# Altium footprint library 9774030592R.PcbLib: 1 footprints
Each footprint in its own frame and in the unit in brackets; x right, y up, seen from the top. Pads: shape width x height; smd on the part's side, far side on the other; paste and mask are expansions set on the pad; w line width, h text height; cw(c..) or ccw(c..) is an arc to the next point about the centre after c.
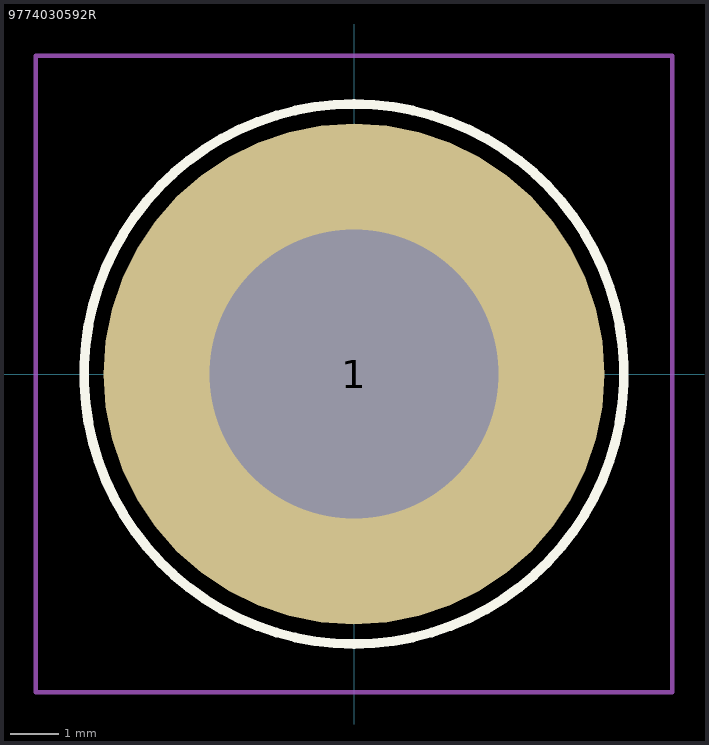
[diagram p0: the footprint, top view; thin cyan lines are the x and y axes]

## 9774030592R [mm]
pads (1):
  round 10.4 hole 6: 1(0,0)
Top Overlay:
  lines w0.2: 0,-5.6 cw(c0,0) 0,5.6 ; 0,-5.6 0,-5.6 ; 0,-5.6 ccw(c0,0) 0,5.6 ; 0,5.6 0,5.6
Mechanical 15:
  lines w0.1: 0,-5.6 cw(c0,0) 0,5.6 ; 0,-5.6 0,-5.6 ; 0,-5.6 ccw(c0,0) 0,5.6 ; 0,5.6 0,5.6
Mechanical 20:
  lines w0.1: -6.6,-6.6 6.6,-6.6 6.6,6.6 -6.6,6.6 -6.6,-6.6